# Altium integrated library LM2596SX-ADJ.IntLib: 1 symbol
Pins are listed as number, name and electrical type; pins without a type are passive.

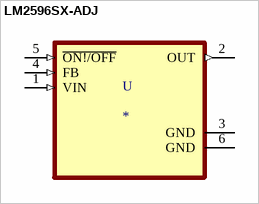
[diagram p0: symbol LM2596SX-ADJ]

## LM2596SX-ADJ
designator U
SIMPLE SWITCHER&reg; 4.5V to 40V, 3A Low Component Count Step-Down Regulator 5-DDPAK/TO-263 -40 to 125; MP: LM2596SX-ADJ; MF: Texas Instruments; Value: *; Package: TO-263-5 Texas Instruments; Availability: Good; DigiKey-Purchase-URL: https://snapeda.com/shop?store=DigiKey&id=1040154; Price: None; SnapEDA_Link: https://www.snapeda.com/parts/LM2596SX-ADJ/Texas%20Instruments/view-part/1040154/?ref=snap; Mouser-Purchase-URL: https://snapeda.com/shop?store=Mouser&id=1040154
footprint VREG_LM2596SX-ADJ
pins: 1 VIN (in), 2 OUT (out), 3 GND (power), 4 FB (in), 5 ~{ON!/OFF} (in), 6 GND (power)